# EAGLE library part S25FS*SAG (library mchair)
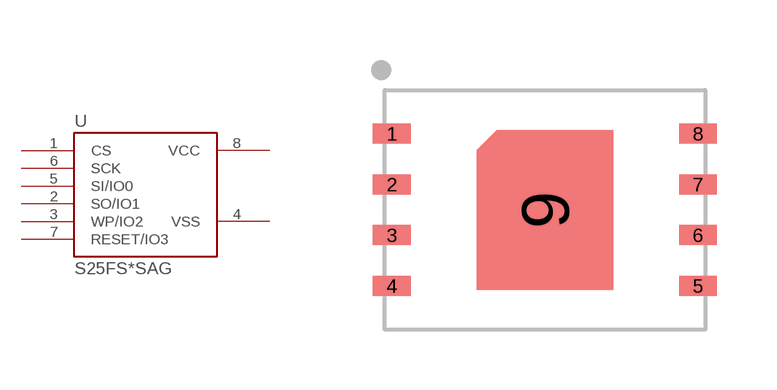
[diagram p1: symbol with the pads of WSON8; footprint WSON8]

Designator prefix U

## S25FS128SAGNFI00, S25FS256SAGNFI00  [WSON8]
1  CS
2  SO/IO1
3  WP/IO2
4  VSS
5  SI/IO0
6  SCK
7  RESET/IO3
8  VCC

## Footprint WSON8 (pad centres in mm)
smd 0.95 x 0.5: 1 -3.825,1.905; 2 -3.825,0.635; 3 -3.825,-0.635; 4 -3.825,-1.905; 5 3.825,-1.905; 6 3.825,-0.635; 7 3.825,0.635; 8 3.825,1.905
smd 2.5 x 3: 9 0,0